# Altium integrated library Capacitors - Ceramic - 0201.IntLib: 1723 symbols (part 36 of 38)
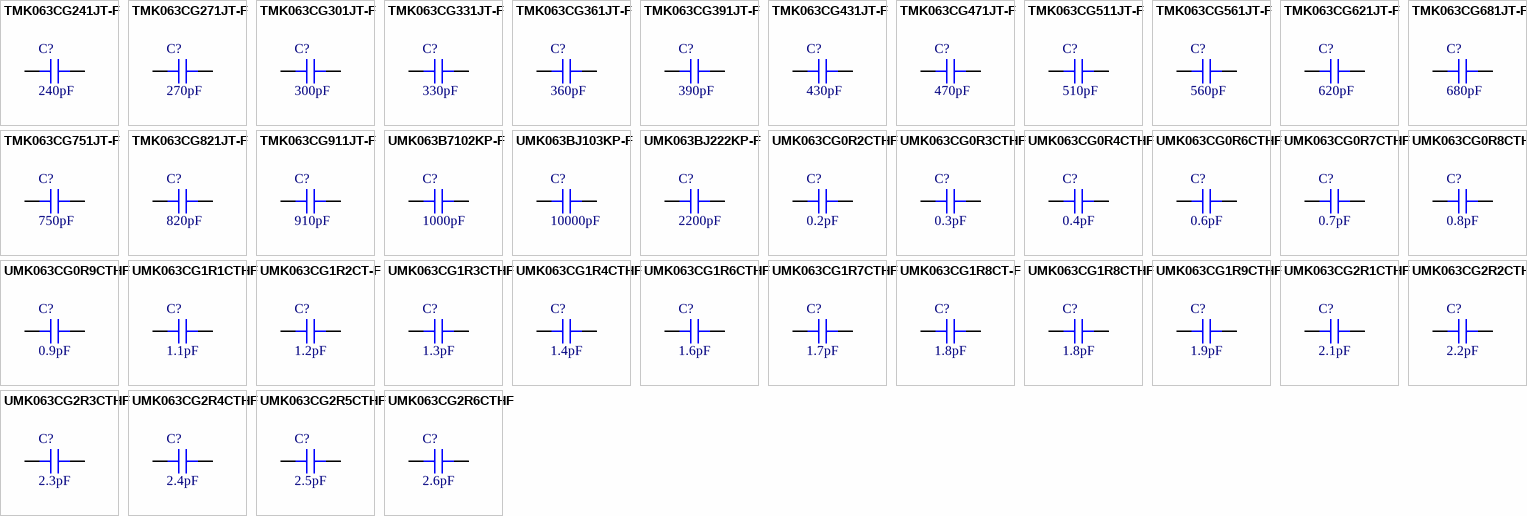
[diagram p78: symbols TMK063CG241JT-F to UMK063CG2R6CTHF]

## UMK063CG2R3CTHF
designator C?, comment 2.3pF
CAP CER 2.3PF 50V C0G/NP0 0201; Part Number: UMK063CG2R3CTHF; Manufacturer: Taiyo Yuden; Temperature Coefficient: C0G, NP0; Tolerance: ±0.25pF; Value: 2.3pF; Applications: Automotive, SMPS Filtering; Capacitance: 2.3pF; ComponentLink1Description: Datasheet; ComponentLink1URL: https://ds.yuden.co.jp/TYCOMPAS/ut/detail?pn=UMK063CG2R3CTHF &u=M; ComponentLink2Description: DigiKey Link; ComponentLink2URL: http://digikey.com/product-detail/en/taiyo-yuden/UMK063CG2R3CTHF/587-5315-1-ND/7066177; Device Package: 0201 (0603 Metric); LastUpdated: 9/2/2020 12:59:57 AM; Lifecycle Status: Active; Minimum Order: 1; Mounting Type: Surface Mount, MLCC; Operating Temperature: -55°C ~ 125°C; Package / Case: 0201 (0603 Metric); Packaging: TapeAndReel; PartId: 264; Part Status: Active; Price: 0.01; Ratings: AEC-Q200; Series: M; Size / Dimension: 0.024" L x 0.012" W (0.60mm x 0.30mm); Supplier 1: DigiKey; Supplier Part Number 1: 587-5315-1-ND; Thickness (Max): 0.013" (0.33mm); Voltage - Rated: 50V
footprint CAP 0201_0603
pins: 1, 2

## UMK063CG2R4CTHF
designator C?, comment 2.4pF
CAP CER 2.4PF 50V C0G/NP0 0201; Part Number: UMK063CG2R4CTHF; Manufacturer: Taiyo Yuden; Temperature Coefficient: C0G, NP0; Tolerance: ±0.25pF; Value: 2.4pF; Applications: Automotive, SMPS Filtering; Capacitance: 2.4pF; ComponentLink1Description: Datasheet; ComponentLink1URL: https://ds.yuden.co.jp/TYCOMPAS/ut/detail?pn=UMK063CG2R4CTHF &u=M; ComponentLink2Description: DigiKey Link; ComponentLink2URL: http://digikey.com/product-detail/en/taiyo-yuden/UMK063CG2R4CTHF/587-5316-1-ND/7066178; Device Package: 0201 (0603 Metric); LastUpdated: 9/2/2020 12:59:56 AM; Lifecycle Status: Active; Minimum Order: 1; Mounting Type: Surface Mount, MLCC; Operating Temperature: -55°C ~ 125°C; Package / Case: 0201 (0603 Metric); Packaging: TapeAndReel; PartId: 265; Part Status: Active; Price: 0.01; Ratings: AEC-Q200; Series: M; Size / Dimension: 0.024" L x 0.012" W (0.60mm x 0.30mm); Supplier 1: DigiKey; Supplier Part Number 1: 587-5316-1-ND; Thickness (Max): 0.013" (0.33mm); Voltage - Rated: 50V
footprint CAP 0201_0603
pins: 1, 2

## UMK063CG2R5CTHF
designator C?, comment 2.5pF
CAP CER 2.5PF 50V C0G/NP0 0201; Part Number: UMK063CG2R5CTHF; Manufacturer: Taiyo Yuden; Temperature Coefficient: C0G, NP0; Tolerance: ±0.25pF; Value: 2.5pF; Applications: Automotive, SMPS Filtering; Capacitance: 2.5pF; ComponentLink1Description: Datasheet; ComponentLink1URL: https://ds.yuden.co.jp/TYCOMPAS/ut/detail?pn=UMK063CG2R5CTHF &u=M; ComponentLink2Description: DigiKey Link; ComponentLink2URL: http://digikey.com/product-detail/en/taiyo-yuden/UMK063CG2R5CTHF/587-5317-1-ND/7066179; Device Package: 0201 (0603 Metric); LastUpdated: 9/2/2020 12:59:56 AM; Lifecycle Status: Active; Minimum Order: 1; Mounting Type: Surface Mount, MLCC; Operating Temperature: -55°C ~ 125°C; Package / Case: 0201 (0603 Metric); Packaging: TapeAndReel; PartId: 266; Part Status: Active; Price: 0.01; Ratings: AEC-Q200; Series: M; Size / Dimension: 0.024" L x 0.012" W (0.60mm x 0.30mm); Supplier 1: DigiKey; Supplier Part Number 1: 587-5317-1-ND; Thickness (Max): 0.013" (0.33mm); Voltage - Rated: 50V
footprint CAP 0201_0603
pins: 1, 2

## UMK063CG2R6CTHF
designator C?, comment 2.6pF
CAP CER 2.6PF 50V C0G/NP0 0201; Part Number: UMK063CG2R6CTHF; Manufacturer: Taiyo Yuden; Temperature Coefficient: C0G, NP0; Tolerance: ±0.25pF; Value: 2.6pF; Applications: Automotive, SMPS Filtering; Capacitance: 2.6pF; ComponentLink1Description: Datasheet; ComponentLink1URL: https://ds.yuden.co.jp/TYCOMPAS/ut/detail?pn=UMK063CG2R6CTHF &u=M; ComponentLink2Description: DigiKey Link; ComponentLink2URL: http://digikey.com/product-detail/en/taiyo-yuden/UMK063CG2R6CTHF/587-5318-1-ND/7066180; Device Package: 0201 (0603 Metric); LastUpdated: 9/2/2020 12:58:21 AM; Lifecycle Status: Active; Minimum Order: 1; Mounting Type: Surface Mount, MLCC; Operating Temperature: -55°C ~ 125°C; Package / Case: 0201 (0603 Metric); Packaging: TapeAndReel; PartId: 1372; Part Status: Active; Price: 0.01; Ratings: AEC-Q200; Series: M; Size / Dimension: 0.024" L x 0.012" W (0.60mm x 0.30mm); Supplier 1: DigiKey; Supplier Part Number 1: 587-5318-1-ND; Thickness (Max): 0.013" (0.33mm); Voltage - Rated: 50V
footprint CAP 0201_0603
pins: 1, 2

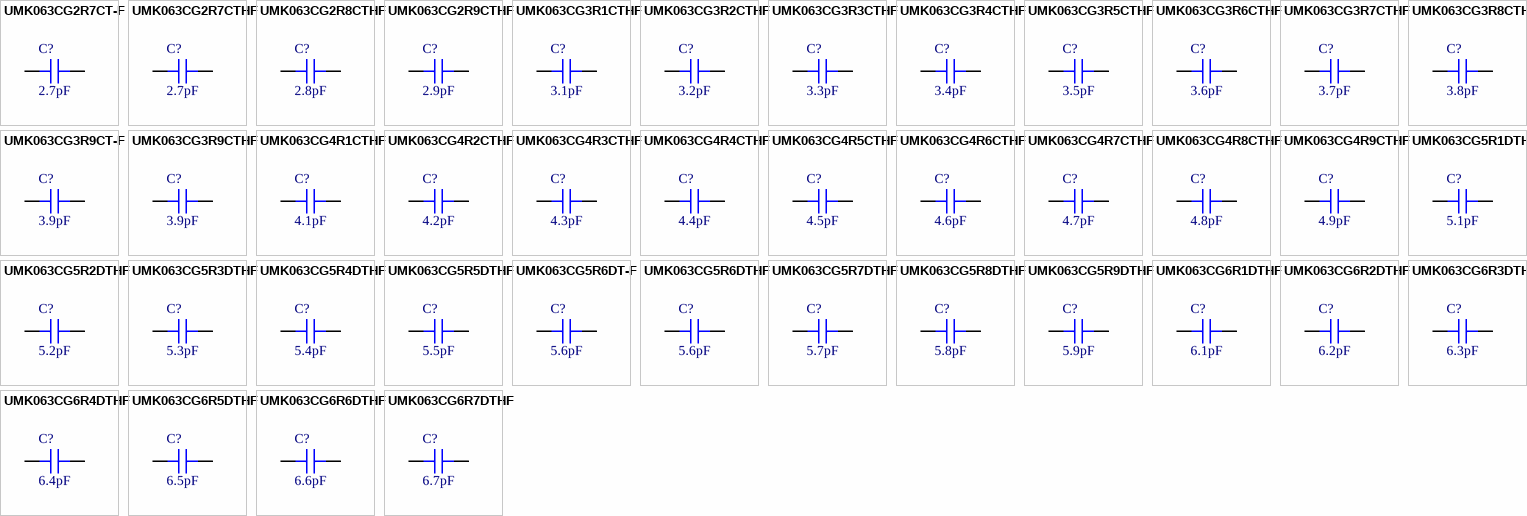
[diagram p40: symbols UMK063CG2R7CT-F to UMK063CG6R7DTHF]

## UMK063CG2R7CT-F
designator C?, comment 2.7pF
CAP CER 2.7PF 50V NP0 0201; Part Number: UMK063CG2R7CT-F; Manufacturer: Taiyo Yuden; Temperature Coefficient: C0G, NP0; Tolerance: ±0.25pF; Value: 2.7pF; Applications: General Purpose; Capacitance: 2.7pF; ComponentLink1Description: Datasheet; ComponentLink1URL: https://ds.yuden.co.jp/TYCOMPAS/ut/detail?pn=UMK063CG2R7CT-F  &u=M; ComponentLink2Description: DigiKey Link; ComponentLink2URL: http://digikey.com/product-detail/en/taiyo-yuden/UMK063CG2R7CT-F/587-3197-1-ND/3195032; Device Package: 0201 (0603 Metric); LastUpdated: 9/2/2020 1:00:14 AM; Lifecycle Status: Active; Minimum Order: 1; Mounting Type: Surface Mount, MLCC; Operating Temperature: -55°C ~ 125°C; Package / Case: 0201 (0603 Metric); Packaging: TapeAndReel; PartId: 61; Part Status: Active; Price: 0.01; Series: M; Size / Dimension: 0.024" L x 0.012" W (0.60mm x 0.30mm); Supplier 1: DigiKey; Supplier Part Number 1: 587-3197-1-ND; Thickness (Max): 0.013" (0.33mm); Voltage - Rated: 50V
footprint CAP 0201_0603
pins: 1, 2

## UMK063CG2R7CTHF
designator C?, comment 2.7pF
CAP CER 2.7PF 50V C0G/NP0 0201; Part Number: UMK063CG2R7CTHF; Manufacturer: Taiyo Yuden; Temperature Coefficient: C0G, NP0; Tolerance: ±0.25pF; Value: 2.7pF; Applications: Automotive, SMPS Filtering; Capacitance: 2.7pF; ComponentLink1Description: Datasheet; ComponentLink1URL: https://ds.yuden.co.jp/TYCOMPAS/ut/detail?pn=UMK063CG2R7CTHF &u=M; ComponentLink2Description: DigiKey Link; ComponentLink2URL: http://digikey.com/product-detail/en/taiyo-yuden/UMK063CG2R7CTHF/587-5319-1-ND/7066181; Device Package: 0201 (0603 Metric); LastUpdated: 9/2/2020 12:58:19 AM; Lifecycle Status: Active; Minimum Order: 1; Mounting Type: Surface Mount, MLCC; Operating Temperature: -55°C ~ 125°C; Package / Case: 0201 (0603 Metric); Packaging: TapeAndReel; PartId: 1395; Part Status: Active; Price: 0.01; Ratings: AEC-Q200; Series: M; Size / Dimension: 0.024" L x 0.012" W (0.60mm x 0.30mm); Supplier 1: DigiKey; Supplier Part Number 1: 587-5319-1-ND; Thickness (Max): 0.013" (0.33mm); Voltage - Rated: 50V
footprint CAP 0201_0603
pins: 1, 2

## UMK063CG2R8CTHF
designator C?, comment 2.8pF
CAP CER 2.8PF 50V C0G/NP0 0201; Part Number: UMK063CG2R8CTHF; Manufacturer: Taiyo Yuden; Temperature Coefficient: C0G, NP0; Tolerance: ±0.25pF; Value: 2.8pF; Applications: Automotive, SMPS Filtering; Capacitance: 2.8pF; ComponentLink1Description: Datasheet; ComponentLink1URL: https://ds.yuden.co.jp/TYCOMPAS/ut/detail?pn=UMK063CG2R8CTHF &u=M; ComponentLink2Description: DigiKey Link; ComponentLink2URL: http://digikey.com/product-detail/en/taiyo-yuden/UMK063CG2R8CTHF/587-5320-1-ND/7066182; Device Package: 0201 (0603 Metric); LastUpdated: 9/2/2020 12:59:56 AM; Lifecycle Status: Active; Minimum Order: 1; Mounting Type: Surface Mount, MLCC; Operating Temperature: -55°C ~ 125°C; Package / Case: 0201 (0603 Metric); Packaging: TapeAndReel; PartId: 267; Part Status: Active; Price: 0.01; Ratings: AEC-Q200; Series: M; Size / Dimension: 0.024" L x 0.012" W (0.60mm x 0.30mm); Supplier 1: DigiKey; Supplier Part Number 1: 587-5320-1-ND; Thickness (Max): 0.013" (0.33mm); Voltage - Rated: 50V
footprint CAP 0201_0603
pins: 1, 2

## UMK063CG2R9CTHF
designator C?, comment 2.9pF
CAP CER 2.9PF 50V C0G/NP0 0201; Part Number: UMK063CG2R9CTHF; Manufacturer: Taiyo Yuden; Temperature Coefficient: C0G, NP0; Tolerance: ±0.25pF; Value: 2.9pF; Applications: Automotive, SMPS Filtering; Capacitance: 2.9pF; ComponentLink1Description: Datasheet; ComponentLink1URL: https://ds.yuden.co.jp/TYCOMPAS/ut/detail?pn=UMK063CG2R9CTHF &u=M; ComponentLink2Description: DigiKey Link; ComponentLink2URL: http://digikey.com/product-detail/en/taiyo-yuden/UMK063CG2R9CTHF/587-5321-1-ND/7066183; Device Package: 0201 (0603 Metric); LastUpdated: 9/2/2020 12:59:56 AM; Lifecycle Status: Active; Minimum Order: 1; Mounting Type: Surface Mount, MLCC; Operating Temperature: -55°C ~ 125°C; Package / Case: 0201 (0603 Metric); Packaging: TapeAndReel; PartId: 268; Part Status: Active; Price: 0.01; Ratings: AEC-Q200; Series: M; Size / Dimension: 0.024" L x 0.012" W (0.60mm x 0.30mm); Supplier 1: DigiKey; Supplier Part Number 1: 587-5321-1-ND; Thickness (Max): 0.013" (0.33mm); Voltage - Rated: 50V
footprint CAP 0201_0603
pins: 1, 2

## UMK063CG3R1CTHF
designator C?, comment 3.1pF
CAP CER 3.1PF 50V C0G/NP0 0201; Part Number: UMK063CG3R1CTHF; Manufacturer: Taiyo Yuden; Temperature Coefficient: C0G, NP0; Tolerance: ±0.25pF; Value: 3.1pF; Applications: Automotive, SMPS Filtering; Capacitance: 3.1pF; ComponentLink1Description: Datasheet; ComponentLink1URL: https://ds.yuden.co.jp/TYCOMPAS/ut/detail?pn=UMK063CG3R1CTHF &u=M; ComponentLink2Description: DigiKey Link; ComponentLink2URL: http://digikey.com/product-detail/en/taiyo-yuden/UMK063CG3R1CTHF/587-5322-1-ND/7066184; Device Package: 0201 (0603 Metric); LastUpdated: 9/2/2020 12:59:56 AM; Lifecycle Status: Active; Minimum Order: 1; Mounting Type: Surface Mount, MLCC; Operating Temperature: -55°C ~ 125°C; Package / Case: 0201 (0603 Metric); Packaging: TapeAndReel; PartId: 269; Part Status: Active; Price: 0.01; Ratings: AEC-Q200; Series: M; Size / Dimension: 0.024" L x 0.012" W (0.60mm x 0.30mm); Supplier 1: DigiKey; Supplier Part Number 1: 587-5322-1-ND; Thickness (Max): 0.013" (0.33mm); Voltage - Rated: 50V
footprint CAP 0201_0603
pins: 1, 2

## UMK063CG3R2CTHF
designator C?, comment 3.2pF
CAP CER 3.2PF 50V C0G/NP0 0201; Part Number: UMK063CG3R2CTHF; Manufacturer: Taiyo Yuden; Temperature Coefficient: C0G, NP0; Tolerance: ±0.25pF; Value: 3.2pF; Applications: Automotive, SMPS Filtering; Capacitance: 3.2pF; ComponentLink1Description: Datasheet; ComponentLink1URL: https://ds.yuden.co.jp/TYCOMPAS/ut/detail?pn=UMK063CG3R2CTHF &u=M; ComponentLink2Description: DigiKey Link; ComponentLink2URL: http://digikey.com/product-detail/en/taiyo-yuden/UMK063CG3R2CTHF/587-5323-1-ND/7066185; Device Package: 0201 (0603 Metric); LastUpdated: 9/2/2020 12:59:56 AM; Lifecycle Status: Active; Minimum Order: 1; Mounting Type: Surface Mount, MLCC; Operating Temperature: -55°C ~ 125°C; Package / Case: 0201 (0603 Metric); Packaging: TapeAndReel; PartId: 270; Part Status: Active; Price: 0.01; Ratings: AEC-Q200; Series: M; Size / Dimension: 0.024" L x 0.012" W (0.60mm x 0.30mm); Supplier 1: DigiKey; Supplier Part Number 1: 587-5323-1-ND; Thickness (Max): 0.013" (0.33mm); Voltage - Rated: 50V
footprint CAP 0201_0603
pins: 1, 2

## UMK063CG3R3CTHF
designator C?, comment 3.3pF
CAP CER 3.3PF 50V C0G/NP0 0201; Part Number: UMK063CG3R3CTHF; Manufacturer: Taiyo Yuden; Temperature Coefficient: C0G, NP0; Tolerance: ±0.25pF; Value: 3.3pF; Applications: Automotive, SMPS Filtering; Capacitance: 3.3pF; ComponentLink1Description: Datasheet; ComponentLink1URL: https://ds.yuden.co.jp/TYCOMPAS/ut/detail?pn=UMK063CG3R3CTHF &u=M; ComponentLink2Description: DigiKey Link; ComponentLink2URL: http://digikey.com/product-detail/en/taiyo-yuden/UMK063CG3R3CTHF/587-5324-1-ND/7066186; Device Package: 0201 (0603 Metric); LastUpdated: 9/2/2020 12:59:56 AM; Lifecycle Status: Active; Minimum Order: 1; Mounting Type: Surface Mount, MLCC; Operating Temperature: -55°C ~ 125°C; Package / Case: 0201 (0603 Metric); Packaging: TapeAndReel; PartId: 271; Part Status: Active; Price: 0.01; Ratings: AEC-Q200; Series: M; Size / Dimension: 0.024" L x 0.012" W (0.60mm x 0.30mm); Supplier 1: DigiKey; Supplier Part Number 1: 587-5324-1-ND; Thickness (Max): 0.013" (0.33mm); Voltage - Rated: 50V
footprint CAP 0201_0603
pins: 1, 2

## UMK063CG3R4CTHF
designator C?, comment 3.4pF
CAP CER 3.4PF 50V C0G/NP0 0201; Part Number: UMK063CG3R4CTHF; Manufacturer: Taiyo Yuden; Temperature Coefficient: C0G, NP0; Tolerance: ±0.25pF; Value: 3.4pF; Applications: Automotive, SMPS Filtering; Capacitance: 3.4pF; ComponentLink1Description: Datasheet; ComponentLink1URL: https://ds.yuden.co.jp/TYCOMPAS/ut/detail?pn=UMK063CG3R4CTHF &u=M; ComponentLink2Description: DigiKey Link; ComponentLink2URL: http://digikey.com/product-detail/en/taiyo-yuden/UMK063CG3R4CTHF/587-5325-1-ND/7066187; Device Package: 0201 (0603 Metric); LastUpdated: 9/2/2020 12:59:56 AM; Lifecycle Status: Active; Minimum Order: 1; Mounting Type: Surface Mount, MLCC; Operating Temperature: -55°C ~ 125°C; Package / Case: 0201 (0603 Metric); Packaging: TapeAndReel; PartId: 272; Part Status: Active; Price: 0.01; Ratings: AEC-Q200; Series: M; Size / Dimension: 0.024" L x 0.012" W (0.60mm x 0.30mm); Supplier 1: DigiKey; Supplier Part Number 1: 587-5325-1-ND; Thickness (Max): 0.013" (0.33mm); Voltage - Rated: 50V
footprint CAP 0201_0603
pins: 1, 2

## UMK063CG3R5CTHF
designator C?, comment 3.5pF
CAP CER 3.5PF 50V C0G/NP0 0201; Part Number: UMK063CG3R5CTHF; Manufacturer: Taiyo Yuden; Temperature Coefficient: C0G, NP0; Tolerance: ±0.25pF; Value: 3.5pF; Applications: Automotive, SMPS Filtering; Capacitance: 3.5pF; ComponentLink1Description: Datasheet; ComponentLink1URL: https://ds.yuden.co.jp/TYCOMPAS/ut/detail?pn=UMK063CG3R5CTHF &u=M; ComponentLink2Description: DigiKey Link; ComponentLink2URL: http://digikey.com/product-detail/en/taiyo-yuden/UMK063CG3R5CTHF/587-5326-1-ND/7066188; Device Package: 0201 (0603 Metric); LastUpdated: 9/2/2020 12:59:56 AM; Lifecycle Status: Active; Minimum Order: 1; Mounting Type: Surface Mount, MLCC; Operating Temperature: -55°C ~ 125°C; Package / Case: 0201 (0603 Metric); Packaging: TapeAndReel; PartId: 273; Part Status: Active; Price: 0.01; Ratings: AEC-Q200; Series: M; Size / Dimension: 0.024" L x 0.012" W (0.60mm x 0.30mm); Supplier 1: DigiKey; Supplier Part Number 1: 587-5326-1-ND; Thickness (Max): 0.013" (0.33mm); Voltage - Rated: 50V
footprint CAP 0201_0603
pins: 1, 2

## UMK063CG3R6CTHF
designator C?, comment 3.6pF
CAP CER 3.6PF 50V C0G/NP0 0201; Part Number: UMK063CG3R6CTHF; Manufacturer: Taiyo Yuden; Temperature Coefficient: C0G, NP0; Tolerance: ±0.25pF; Value: 3.6pF; Applications: Automotive, SMPS Filtering; Capacitance: 3.6pF; ComponentLink1Description: Datasheet; ComponentLink1URL: https://ds.yuden.co.jp/TYCOMPAS/ut/detail?pn=UMK063CG3R6CTHF &u=M; ComponentLink2Description: DigiKey Link; ComponentLink2URL: http://digikey.com/product-detail/en/taiyo-yuden/UMK063CG3R6CTHF/587-5327-1-ND/7066189; Device Package: 0201 (0603 Metric); LastUpdated: 9/2/2020 12:58:22 AM; Lifecycle Status: Active; Minimum Order: 1; Mounting Type: Surface Mount, MLCC; Operating Temperature: -55°C ~ 125°C; Package / Case: 0201 (0603 Metric); Packaging: TapeAndReel; PartId: 1364; Part Status: Active; Price: 0.01; Ratings: AEC-Q200; Series: M; Size / Dimension: 0.024" L x 0.012" W (0.60mm x 0.30mm); Supplier 1: DigiKey; Supplier Part Number 1: 587-5327-1-ND; Thickness (Max): 0.013" (0.33mm); Voltage - Rated: 50V
footprint CAP 0201_0603
pins: 1, 2

## UMK063CG3R7CTHF
designator C?, comment 3.7pF
CAP CER 3.7PF 50V C0G/NP0 0201; Part Number: UMK063CG3R7CTHF; Manufacturer: Taiyo Yuden; Temperature Coefficient: C0G, NP0; Tolerance: ±0.25pF; Value: 3.7pF; Applications: Automotive, SMPS Filtering; Capacitance: 3.7pF; ComponentLink1Description: Datasheet; ComponentLink1URL: https://ds.yuden.co.jp/TYCOMPAS/ut/detail?pn=UMK063CG3R7CTHF &u=M; ComponentLink2Description: DigiKey Link; ComponentLink2URL: http://digikey.com/product-detail/en/taiyo-yuden/UMK063CG3R7CTHF/587-5328-1-ND/7066190; Device Package: 0201 (0603 Metric); LastUpdated: 9/2/2020 12:59:56 AM; Lifecycle Status: Active; Minimum Order: 1; Mounting Type: Surface Mount, MLCC; Operating Temperature: -55°C ~ 125°C; Package / Case: 0201 (0603 Metric); Packaging: TapeAndReel; PartId: 274; Part Status: Active; Price: 0.01; Ratings: AEC-Q200; Series: M; Size / Dimension: 0.024" L x 0.012" W (0.60mm x 0.30mm); Supplier 1: DigiKey; Supplier Part Number 1: 587-5328-1-ND; Thickness (Max): 0.013" (0.33mm); Voltage - Rated: 50V
footprint CAP 0201_0603
pins: 1, 2

## UMK063CG3R8CTHF
designator C?, comment 3.8pF
CAP CER 3.8PF 50V C0G/NP0 0201; Part Number: UMK063CG3R8CTHF; Manufacturer: Taiyo Yuden; Temperature Coefficient: C0G, NP0; Tolerance: ±0.25pF; Value: 3.8pF; Applications: Automotive, SMPS Filtering; Capacitance: 3.8pF; ComponentLink1Description: Datasheet; ComponentLink1URL: https://ds.yuden.co.jp/TYCOMPAS/ut/detail?pn=UMK063CG3R8CTHF &u=M; ComponentLink2Description: DigiKey Link; ComponentLink2URL: http://digikey.com/product-detail/en/taiyo-yuden/UMK063CG3R8CTHF/587-5329-1-ND/7066191; Device Package: 0201 (0603 Metric); LastUpdated: 9/2/2020 12:59:56 AM; Lifecycle Status: Active; Minimum Order: 1; Mounting Type: Surface Mount, MLCC; Operating Temperature: -55°C ~ 125°C; Package / Case: 0201 (0603 Metric); Packaging: TapeAndReel; PartId: 275; Part Status: Active; Price: 0.01; Ratings: AEC-Q200; Series: M; Size / Dimension: 0.024" L x 0.012" W (0.60mm x 0.30mm); Supplier 1: DigiKey; Supplier Part Number 1: 587-5329-1-ND; Thickness (Max): 0.013" (0.33mm); Voltage - Rated: 50V
footprint CAP 0201_0603
pins: 1, 2

## UMK063CG3R9CT-F
designator C?, comment 3.9pF
CAP CER 3.9PF 50V NP0 0201; Part Number: UMK063CG3R9CT-F; Manufacturer: Taiyo Yuden; Temperature Coefficient: C0G, NP0; Tolerance: ±0.25pF; Value: 3.9pF; Applications: General Purpose; Capacitance: 3.9pF; ComponentLink1Description: Datasheet; ComponentLink1URL: https://ds.yuden.co.jp/TYCOMPAS/ut/detail?pn=UMK063CG3R9CT-F  &u=M; ComponentLink2Description: DigiKey Link; ComponentLink2URL: http://digikey.com/product-detail/en/taiyo-yuden/UMK063CG3R9CT-F/587-3193-1-ND/3195063; Device Package: 0201 (0603 Metric); LastUpdated: 9/2/2020 12:58:50 AM; Lifecycle Status: Active; Minimum Order: 1; Mounting Type: Surface Mount, MLCC; Operating Temperature: -55°C ~ 125°C; Package / Case: 0201 (0603 Metric); Packaging: TapeAndReel; PartId: 1041; Part Status: Active; Price: 0.01; Series: M; Size / Dimension: 0.024" L x 0.012" W (0.60mm x 0.30mm); Supplier 1: DigiKey; Supplier Part Number 1: 587-3193-1-ND; Thickness (Max): 0.013" (0.33mm); Voltage - Rated: 50V
footprint CAP 0201_0603
pins: 1, 2

## UMK063CG3R9CTHF
designator C?, comment 3.9pF
CAP CER 3.9PF 50V C0G/NP0 0201; Part Number: UMK063CG3R9CTHF; Manufacturer: Taiyo Yuden; Temperature Coefficient: C0G, NP0; Tolerance: ±0.25pF; Value: 3.9pF; Applications: Automotive, SMPS Filtering; Capacitance: 3.9pF; ComponentLink1Description: Datasheet; ComponentLink1URL: https://ds.yuden.co.jp/TYCOMPAS/ut/detail?pn=UMK063CG3R9CTHF &u=M; ComponentLink2Description: DigiKey Link; ComponentLink2URL: http://digikey.com/product-detail/en/taiyo-yuden/UMK063CG3R9CTHF/587-5330-1-ND/7066192; Device Package: 0201 (0603 Metric); LastUpdated: 9/2/2020 12:59:56 AM; Lifecycle Status: Active; Minimum Order: 1; Mounting Type: Surface Mount, MLCC; Operating Temperature: -55°C ~ 125°C; Package / Case: 0201 (0603 Metric); Packaging: TapeAndReel; PartId: 276; Part Status: Active; Price: 0.01; Ratings: AEC-Q200; Series: M; Size / Dimension: 0.024" L x 0.012" W (0.60mm x 0.30mm); Supplier 1: DigiKey; Supplier Part Number 1: 587-5330-1-ND; Thickness (Max): 0.013" (0.33mm); Voltage - Rated: 50V
footprint CAP 0201_0603
pins: 1, 2

## UMK063CG4R1CTHF
designator C?, comment 4.1pF
CAP CER 4.1PF 50V C0G/NP0 0201; Part Number: UMK063CG4R1CTHF; Manufacturer: Taiyo Yuden; Temperature Coefficient: C0G, NP0; Tolerance: ±0.25pF; Value: 4.1pF; Applications: Automotive, SMPS Filtering; Capacitance: 4.1pF; ComponentLink1Description: Datasheet; ComponentLink1URL: https://ds.yuden.co.jp/TYCOMPAS/ut/detail?pn=UMK063CG4R1CTHF &u=M; ComponentLink2Description: DigiKey Link; ComponentLink2URL: http://digikey.com/product-detail/en/taiyo-yuden/UMK063CG4R1CTHF/587-5331-1-ND/7066193; Device Package: 0201 (0603 Metric); LastUpdated: 9/2/2020 12:59:55 AM; Lifecycle Status: Active; Minimum Order: 1; Mounting Type: Surface Mount, MLCC; Operating Temperature: -55°C ~ 125°C; Package / Case: 0201 (0603 Metric); Packaging: TapeAndReel; PartId: 277; Part Status: Active; Price: 0.01; Ratings: AEC-Q200; Series: M; Size / Dimension: 0.024" L x 0.012" W (0.60mm x 0.30mm); Supplier 1: DigiKey; Supplier Part Number 1: 587-5331-1-ND; Thickness (Max): 0.013" (0.33mm); Voltage - Rated: 50V
footprint CAP 0201_0603
pins: 1, 2

## UMK063CG4R2CTHF
designator C?, comment 4.2pF
CAP CER 4.2PF 50V C0G/NP0 0201; Part Number: UMK063CG4R2CTHF; Manufacturer: Taiyo Yuden; Temperature Coefficient: C0G, NP0; Tolerance: ±0.25pF; Value: 4.2pF; Applications: Automotive, SMPS Filtering; Capacitance: 4.2pF; ComponentLink1Description: Datasheet; ComponentLink1URL: https://ds.yuden.co.jp/TYCOMPAS/ut/detail?pn=UMK063CG4R2CTHF &u=M; ComponentLink2Description: DigiKey Link; ComponentLink2URL: http://digikey.com/product-detail/en/taiyo-yuden/UMK063CG4R2CTHF/587-5332-1-ND/7066194; Device Package: 0201 (0603 Metric); LastUpdated: 9/2/2020 12:59:55 AM; Lifecycle Status: Active; Minimum Order: 1; Mounting Type: Surface Mount, MLCC; Operating Temperature: -55°C ~ 125°C; Package / Case: 0201 (0603 Metric); Packaging: TapeAndReel; PartId: 278; Part Status: Active; Price: 0.01; Ratings: AEC-Q200; Series: M; Size / Dimension: 0.024" L x 0.012" W (0.60mm x 0.30mm); Supplier 1: DigiKey; Supplier Part Number 1: 587-5332-1-ND; Thickness (Max): 0.013" (0.33mm); Voltage - Rated: 50V
footprint CAP 0201_0603
pins: 1, 2

## UMK063CG4R3CTHF
designator C?, comment 4.3pF
CAP CER 4.3PF 50V C0G/NP0 0201; Part Number: UMK063CG4R3CTHF; Manufacturer: Taiyo Yuden; Temperature Coefficient: C0G, NP0; Tolerance: ±0.25pF; Value: 4.3pF; Applications: Automotive, SMPS Filtering; Capacitance: 4.3pF; ComponentLink1Description: Datasheet; ComponentLink1URL: https://ds.yuden.co.jp/TYCOMPAS/ut/detail?pn=UMK063CG4R3CTHF &u=M; ComponentLink2Description: DigiKey Link; ComponentLink2URL: http://digikey.com/product-detail/en/taiyo-yuden/UMK063CG4R3CTHF/587-5333-1-ND/7066195; Device Package: 0201 (0603 Metric); LastUpdated: 9/2/2020 12:58:36 AM; Lifecycle Status: Active; Minimum Order: 1; Mounting Type: Surface Mount, MLCC; Operating Temperature: -55°C ~ 125°C; Package / Case: 0201 (0603 Metric); Packaging: TapeAndReel; PartId: 1213; Part Status: Active; Price: 0.01; Ratings: AEC-Q200; Series: M; Size / Dimension: 0.024" L x 0.012" W (0.60mm x 0.30mm); Supplier 1: DigiKey; Supplier Part Number 1: 587-5333-1-ND; Thickness (Max): 0.013" (0.33mm); Voltage - Rated: 50V
footprint CAP 0201_0603
pins: 1, 2

## UMK063CG4R4CTHF
designator C?, comment 4.4pF
CAP CER 4.4PF 50V C0G/NP0 0201; Part Number: UMK063CG4R4CTHF; Manufacturer: Taiyo Yuden; Temperature Coefficient: C0G, NP0; Tolerance: ±0.25pF; Value: 4.4pF; Applications: Automotive, SMPS Filtering; Capacitance: 4.4pF; ComponentLink1Description: Datasheet; ComponentLink1URL: https://ds.yuden.co.jp/TYCOMPAS/ut/detail?pn=UMK063CG4R4CTHF &u=M; ComponentLink2Description: DigiKey Link; ComponentLink2URL: http://digikey.com/product-detail/en/taiyo-yuden/UMK063CG4R4CTHF/587-5334-1-ND/7066196; Device Package: 0201 (0603 Metric); LastUpdated: 9/2/2020 12:59:55 AM; Lifecycle Status: Active; Minimum Order: 1; Mounting Type: Surface Mount, MLCC; Operating Temperature: -55°C ~ 125°C; Package / Case: 0201 (0603 Metric); Packaging: TapeAndReel; PartId: 279; Part Status: Active; Price: 0.01; Ratings: AEC-Q200; Series: M; Size / Dimension: 0.024" L x 0.012" W (0.60mm x 0.30mm); Supplier 1: DigiKey; Supplier Part Number 1: 587-5334-1-ND; Thickness (Max): 0.013" (0.33mm); Voltage - Rated: 50V
footprint CAP 0201_0603
pins: 1, 2

## UMK063CG4R5CTHF
designator C?, comment 4.5pF
CAP CER 4.5PF 50V C0G/NP0 0201; Part Number: UMK063CG4R5CTHF; Manufacturer: Taiyo Yuden; Temperature Coefficient: C0G, NP0; Tolerance: ±0.25pF; Value: 4.5pF; Applications: Automotive, SMPS Filtering; Capacitance: 4.5pF; ComponentLink1Description: Datasheet; ComponentLink1URL: https://ds.yuden.co.jp/TYCOMPAS/ut/detail?pn=UMK063CG4R5CTHF &u=M; ComponentLink2Description: DigiKey Link; ComponentLink2URL: http://digikey.com/product-detail/en/taiyo-yuden/UMK063CG4R5CTHF/587-5335-1-ND/7066197; Device Package: 0201 (0603 Metric); LastUpdated: 9/2/2020 12:59:55 AM; Lifecycle Status: Active; Minimum Order: 1; Mounting Type: Surface Mount, MLCC; Operating Temperature: -55°C ~ 125°C; Package / Case: 0201 (0603 Metric); Packaging: TapeAndReel; PartId: 280; Part Status: Active; Price: 0.01; Ratings: AEC-Q200; Series: M; Size / Dimension: 0.024" L x 0.012" W (0.60mm x 0.30mm); Supplier 1: DigiKey; Supplier Part Number 1: 587-5335-1-ND; Thickness (Max): 0.013" (0.33mm); Voltage - Rated: 50V
footprint CAP 0201_0603
pins: 1, 2

## UMK063CG4R6CTHF
designator C?, comment 4.6pF
CAP CER 4.6PF 50V C0G/NP0 0201; Part Number: UMK063CG4R6CTHF; Manufacturer: Taiyo Yuden; Temperature Coefficient: C0G, NP0; Tolerance: ±0.25pF; Value: 4.6pF; Applications: Automotive, SMPS Filtering; Capacitance: 4.6pF; ComponentLink1Description: Datasheet; ComponentLink1URL: https://ds.yuden.co.jp/TYCOMPAS/ut/detail?pn=UMK063CG4R6CTHF &u=M; ComponentLink2Description: DigiKey Link; ComponentLink2URL: http://digikey.com/product-detail/en/taiyo-yuden/UMK063CG4R6CTHF/587-5336-1-ND/7066198; Device Package: 0201 (0603 Metric); LastUpdated: 9/2/2020 12:59:55 AM; Lifecycle Status: Active; Minimum Order: 1; Mounting Type: Surface Mount, MLCC; Operating Temperature: -55°C ~ 125°C; Package / Case: 0201 (0603 Metric); Packaging: TapeAndReel; PartId: 281; Part Status: Active; Price: 0.01; Ratings: AEC-Q200; Series: M; Size / Dimension: 0.024" L x 0.012" W (0.60mm x 0.30mm); Supplier 1: DigiKey; Supplier Part Number 1: 587-5336-1-ND; Thickness (Max): 0.013" (0.33mm); Voltage - Rated: 50V
footprint CAP 0201_0603
pins: 1, 2

## UMK063CG4R7CTHF
designator C?, comment 4.7pF
CAP CER 4.7PF 50V C0G/NP0 0201; Part Number: UMK063CG4R7CTHF; Manufacturer: Taiyo Yuden; Temperature Coefficient: C0G, NP0; Tolerance: ±0.25pF; Value: 4.7pF; Applications: Automotive, SMPS Filtering; Capacitance: 4.7pF; ComponentLink1Description: Datasheet; ComponentLink1URL: https://ds.yuden.co.jp/TYCOMPAS/ut/detail?pn=UMK063CG4R7CTHF &u=M; ComponentLink2Description: DigiKey Link; ComponentLink2URL: http://digikey.com/product-detail/en/taiyo-yuden/UMK063CG4R7CTHF/587-5337-1-ND/7066199; Device Package: 0201 (0603 Metric); LastUpdated: 9/2/2020 1:00:04 AM; Lifecycle Status: Active; Minimum Order: 1; Mounting Type: Surface Mount, MLCC; Operating Temperature: -55°C ~ 125°C; Package / Case: 0201 (0603 Metric); Packaging: TapeAndReel; PartId: 176; Part Status: Active; Price: 0.01; Ratings: AEC-Q200; Series: M; Size / Dimension: 0.024" L x 0.012" W (0.60mm x 0.30mm); Supplier 1: DigiKey; Supplier Part Number 1: 587-5337-1-ND; Thickness (Max): 0.013" (0.33mm); Voltage - Rated: 50V
footprint CAP 0201_0603
pins: 1, 2

## UMK063CG4R8CTHF
designator C?, comment 4.8pF
CAP CER 4.8PF 50V C0G/NP0 0201; Part Number: UMK063CG4R8CTHF; Manufacturer: Taiyo Yuden; Temperature Coefficient: C0G, NP0; Tolerance: ±0.25pF; Value: 4.8pF; Applications: Automotive, SMPS Filtering; Capacitance: 4.8pF; ComponentLink1Description: Datasheet; ComponentLink1URL: https://ds.yuden.co.jp/TYCOMPAS/ut/detail?pn=UMK063CG4R8CTHF &u=M; ComponentLink2Description: DigiKey Link; ComponentLink2URL: http://digikey.com/product-detail/en/taiyo-yuden/UMK063CG4R8CTHF/587-5338-1-ND/7066200; Device Package: 0201 (0603 Metric); LastUpdated: 9/2/2020 12:59:55 AM; Lifecycle Status: Active; Minimum Order: 1; Mounting Type: Surface Mount, MLCC; Operating Temperature: -55°C ~ 125°C; Package / Case: 0201 (0603 Metric); Packaging: TapeAndReel; PartId: 282; Part Status: Active; Price: 0.01; Ratings: AEC-Q200; Series: M; Size / Dimension: 0.024" L x 0.012" W (0.60mm x 0.30mm); Supplier 1: DigiKey; Supplier Part Number 1: 587-5338-1-ND; Thickness (Max): 0.013" (0.33mm); Voltage - Rated: 50V
footprint CAP 0201_0603
pins: 1, 2

## UMK063CG4R9CTHF
designator C?, comment 4.9pF
CAP CER 4.9PF 50V C0G/NP0 0201; Part Number: UMK063CG4R9CTHF; Manufacturer: Taiyo Yuden; Temperature Coefficient: C0G, NP0; Tolerance: ±0.25pF; Value: 4.9pF; Applications: Automotive, SMPS Filtering; Capacitance: 4.9pF; ComponentLink1Description: Datasheet; ComponentLink1URL: https://ds.yuden.co.jp/TYCOMPAS/ut/detail?pn=UMK063CG4R9CTHF &u=M; ComponentLink2Description: DigiKey Link; ComponentLink2URL: http://digikey.com/product-detail/en/taiyo-yuden/UMK063CG4R9CTHF/587-5339-1-ND/7066201; Device Package: 0201 (0603 Metric); LastUpdated: 9/2/2020 12:59:55 AM; Lifecycle Status: Active; Minimum Order: 1; Mounting Type: Surface Mount, MLCC; Operating Temperature: -55°C ~ 125°C; Package / Case: 0201 (0603 Metric); Packaging: TapeAndReel; PartId: 283; Part Status: Active; Price: 0.01; Ratings: AEC-Q200; Series: M; Size / Dimension: 0.024" L x 0.012" W (0.60mm x 0.30mm); Supplier 1: DigiKey; Supplier Part Number 1: 587-5339-1-ND; Thickness (Max): 0.013" (0.33mm); Voltage - Rated: 50V
footprint CAP 0201_0603
pins: 1, 2

## UMK063CG5R1DTHF
designator C?, comment 5.1pF
CAP CER 5.1PF 50V C0G/NP0 0201; Part Number: UMK063CG5R1DTHF; Manufacturer: Taiyo Yuden; Temperature Coefficient: C0G, NP0; Tolerance: ±0.5pF; Value: 5.1pF; Applications: Automotive, SMPS Filtering; Capacitance: 5.1pF; ComponentLink1Description: Datasheet; ComponentLink1URL: https://ds.yuden.co.jp/TYCOMPAS/ut/detail?pn=UMK063CG5R1DTHF &u=M; ComponentLink2Description: DigiKey Link; ComponentLink2URL: http://digikey.com/product-detail/en/taiyo-yuden/UMK063CG5R1DTHF/587-5340-1-ND/7066202; Device Package: 0201 (0603 Metric); LastUpdated: 9/2/2020 12:59:55 AM; Lifecycle Status: Active; Minimum Order: 1; Mounting Type: Surface Mount, MLCC; Operating Temperature: -55°C ~ 125°C; Package / Case: 0201 (0603 Metric); Packaging: TapeAndReel; PartId: 284; Part Status: Active; Price: 0.01; Ratings: AEC-Q200; Series: M; Size / Dimension: 0.024" L x 0.012" W (0.60mm x 0.30mm); Supplier 1: DigiKey; Supplier Part Number 1: 587-5340-1-ND; Thickness (Max): 0.013" (0.33mm); Voltage - Rated: 50V
footprint CAP 0201_0603
pins: 1, 2

## UMK063CG5R2DTHF
designator C?, comment 5.2pF
CAP CER 5.2PF 50V C0G/NP0 0201; Part Number: UMK063CG5R2DTHF; Manufacturer: Taiyo Yuden; Temperature Coefficient: C0G, NP0; Tolerance: ±0.5pF; Value: 5.2pF; Applications: Automotive, SMPS Filtering; Capacitance: 5.2pF; ComponentLink1Description: Datasheet; ComponentLink1URL: https://ds.yuden.co.jp/TYCOMPAS/ut/detail?pn=UMK063CG5R2DTHF &u=M; ComponentLink2Description: DigiKey Link; ComponentLink2URL: http://digikey.com/product-detail/en/taiyo-yuden/UMK063CG5R2DTHF/587-5341-1-ND/7066203; Device Package: 0201 (0603 Metric); LastUpdated: 9/2/2020 12:59:55 AM; Lifecycle Status: Active; Minimum Order: 1; Mounting Type: Surface Mount, MLCC; Operating Temperature: -55°C ~ 125°C; Package / Case: 0201 (0603 Metric); Packaging: TapeAndReel; PartId: 285; Part Status: Active; Price: 0.01; Ratings: AEC-Q200; Series: M; Size / Dimension: 0.024" L x 0.012" W (0.60mm x 0.30mm); Supplier 1: DigiKey; Supplier Part Number 1: 587-5341-1-ND; Thickness (Max): 0.013" (0.33mm); Voltage - Rated: 50V
footprint CAP 0201_0603
pins: 1, 2

## UMK063CG5R3DTHF
designator C?, comment 5.3pF
CAP CER 5.3PF 50V C0G/NP0 0201; Part Number: UMK063CG5R3DTHF; Manufacturer: Taiyo Yuden; Temperature Coefficient: C0G, NP0; Tolerance: ±0.5pF; Value: 5.3pF; Applications: Automotive, SMPS Filtering; Capacitance: 5.3pF; ComponentLink1Description: Datasheet; ComponentLink1URL: https://ds.yuden.co.jp/TYCOMPAS/ut/detail?pn=UMK063CG5R3DTHF &u=M; ComponentLink2Description: DigiKey Link; ComponentLink2URL: http://digikey.com/product-detail/en/taiyo-yuden/UMK063CG5R3DTHF/587-5342-1-ND/7066204; Device Package: 0201 (0603 Metric); LastUpdated: 9/2/2020 12:59:55 AM; Lifecycle Status: Active; Minimum Order: 1; Mounting Type: Surface Mount, MLCC; Operating Temperature: -55°C ~ 125°C; Package / Case: 0201 (0603 Metric); Packaging: TapeAndReel; PartId: 286; Part Status: Active; Price: 0.01; Ratings: AEC-Q200; Series: M; Size / Dimension: 0.024" L x 0.012" W (0.60mm x 0.30mm); Supplier 1: DigiKey; Supplier Part Number 1: 587-5342-1-ND; Thickness (Max): 0.013" (0.33mm); Voltage - Rated: 50V
footprint CAP 0201_0603
pins: 1, 2

## UMK063CG5R4DTHF
designator C?, comment 5.4pF
CAP CER 5.4PF 50V C0G/NP0 0201; Part Number: UMK063CG5R4DTHF; Manufacturer: Taiyo Yuden; Temperature Coefficient: C0G, NP0; Tolerance: ±0.5pF; Value: 5.4pF; Applications: Automotive, SMPS Filtering; Capacitance: 5.4pF; ComponentLink1Description: Datasheet; ComponentLink1URL: https://ds.yuden.co.jp/TYCOMPAS/ut/detail?pn=UMK063CG5R4DTHF &u=M; ComponentLink2Description: DigiKey Link; ComponentLink2URL: http://digikey.com/product-detail/en/taiyo-yuden/UMK063CG5R4DTHF/587-5343-1-ND/7066205; Device Package: 0201 (0603 Metric); LastUpdated: 9/2/2020 12:59:55 AM; Lifecycle Status: Active; Minimum Order: 1; Mounting Type: Surface Mount, MLCC; Operating Temperature: -55°C ~ 125°C; Package / Case: 0201 (0603 Metric); Packaging: TapeAndReel; PartId: 287; Part Status: Active; Price: 0.01; Ratings: AEC-Q200; Series: M; Size / Dimension: 0.024" L x 0.012" W (0.60mm x 0.30mm); Supplier 1: DigiKey; Supplier Part Number 1: 587-5343-1-ND; Thickness (Max): 0.013" (0.33mm); Voltage - Rated: 50V
footprint CAP 0201_0603
pins: 1, 2

## UMK063CG5R5DTHF
designator C?, comment 5.5pF
CAP CER 5.5PF 50V C0G/NP0 0201; Part Number: UMK063CG5R5DTHF; Manufacturer: Taiyo Yuden; Temperature Coefficient: C0G, NP0; Tolerance: ±0.5pF; Value: 5.5pF; Applications: Automotive, SMPS Filtering; Capacitance: 5.5pF; ComponentLink1Description: Datasheet; ComponentLink1URL: https://ds.yuden.co.jp/TYCOMPAS/ut/detail?pn=UMK063CG5R5DTHF &u=M; ComponentLink2Description: DigiKey Link; ComponentLink2URL: http://digikey.com/product-detail/en/taiyo-yuden/UMK063CG5R5DTHF/587-5344-1-ND/7066206; Device Package: 0201 (0603 Metric); LastUpdated: 9/2/2020 12:59:55 AM; Lifecycle Status: Active; Minimum Order: 1; Mounting Type: Surface Mount, MLCC; Operating Temperature: -55°C ~ 125°C; Package / Case: 0201 (0603 Metric); Packaging: TapeAndReel; PartId: 288; Part Status: Active; Price: 0.01; Ratings: AEC-Q200; Series: M; Size / Dimension: 0.024" L x 0.012" W (0.60mm x 0.30mm); Supplier 1: DigiKey; Supplier Part Number 1: 587-5344-1-ND; Thickness (Max): 0.013" (0.33mm); Voltage - Rated: 50V
footprint CAP 0201_0603
pins: 1, 2

## UMK063CG5R6DT-F
designator C?, comment 5.6pF
CAP CER 5.6PF 50V NP0 0201; Part Number: UMK063CG5R6DT-F; Manufacturer: Taiyo Yuden; Temperature Coefficient: C0G, NP0; Tolerance: ±0.5pF; Value: 5.6pF; Applications: General Purpose; Capacitance: 5.6pF; ComponentLink1Description: Datasheet; ComponentLink1URL: https://ds.yuden.co.jp/TYCOMPAS/ut/detail?pn=UMK063CG5R6DT-F  &u=M; ComponentLink2Description: DigiKey Link; ComponentLink2URL: http://digikey.com/product-detail/en/taiyo-yuden/UMK063CG5R6DT-F/587-3189-1-ND/3195017; Device Package: 0201 (0603 Metric); LastUpdated: 9/2/2020 12:58:42 AM; Lifecycle Status: Active; Minimum Order: 1; Mounting Type: Surface Mount, MLCC; Operating Temperature: -55°C ~ 125°C; Package / Case: 0201 (0603 Metric); Packaging: TapeAndReel; PartId: 1140; Part Status: Active; Price: 0.01; Series: M; Size / Dimension: 0.024" L x 0.012" W (0.60mm x 0.30mm); Supplier 1: DigiKey; Supplier Part Number 1: 587-3189-1-ND; Thickness (Max): 0.013" (0.33mm); Voltage - Rated: 50V
footprint CAP 0201_0603
pins: 1, 2

## UMK063CG5R6DTHF
designator C?, comment 5.6pF
CAP CER 5.6PF 50V C0G/NP0 0201; Part Number: UMK063CG5R6DTHF; Manufacturer: Taiyo Yuden; Temperature Coefficient: C0G, NP0; Tolerance: ±0.5pF; Value: 5.6pF; Applications: Automotive, SMPS Filtering; Capacitance: 5.6pF; ComponentLink1Description: Datasheet; ComponentLink1URL: https://ds.yuden.co.jp/TYCOMPAS/ut/detail?pn=UMK063CG5R6DTHF &u=M; ComponentLink2Description: DigiKey Link; ComponentLink2URL: http://digikey.com/product-detail/en/taiyo-yuden/UMK063CG5R6DTHF/587-5345-1-ND/7066207; Device Package: 0201 (0603 Metric); LastUpdated: 9/2/2020 1:00:05 AM; Lifecycle Status: Active; Minimum Order: 1; Mounting Type: Surface Mount, MLCC; Operating Temperature: -55°C ~ 125°C; Package / Case: 0201 (0603 Metric); Packaging: TapeAndReel; PartId: 166; Part Status: Active; Price: 0.01; Ratings: AEC-Q200; Series: M; Size / Dimension: 0.024" L x 0.012" W (0.60mm x 0.30mm); Supplier 1: DigiKey; Supplier Part Number 1: 587-5345-1-ND; Thickness (Max): 0.013" (0.33mm); Voltage - Rated: 50V
footprint CAP 0201_0603
pins: 1, 2

## UMK063CG5R7DTHF
designator C?, comment 5.7pF
CAP CER 5.7PF 50V C0G/NP0 0201; Part Number: UMK063CG5R7DTHF; Manufacturer: Taiyo Yuden; Temperature Coefficient: C0G, NP0; Tolerance: ±0.5pF; Value: 5.7pF; Applications: Automotive, SMPS Filtering; Capacitance: 5.7pF; ComponentLink1Description: Datasheet; ComponentLink1URL: https://ds.yuden.co.jp/TYCOMPAS/ut/detail?pn=UMK063CG5R7DTHF &u=M; ComponentLink2Description: DigiKey Link; ComponentLink2URL: http://digikey.com/product-detail/en/taiyo-yuden/UMK063CG5R7DTHF/587-5346-1-ND/7066208; Device Package: 0201 (0603 Metric); LastUpdated: 9/2/2020 12:59:58 AM; Lifecycle Status: Active; Minimum Order: 1; Mounting Type: Surface Mount, MLCC; Operating Temperature: -55°C ~ 125°C; Package / Case: 0201 (0603 Metric); Packaging: TapeAndReel; PartId: 243; Part Status: Active; Price: 0.01; Ratings: AEC-Q200; Series: M; Size / Dimension: 0.024" L x 0.012" W (0.60mm x 0.30mm); Supplier 1: DigiKey; Supplier Part Number 1: 587-5346-1-ND; Thickness (Max): 0.013" (0.33mm); Voltage - Rated: 50V
footprint CAP 0201_0603
pins: 1, 2

## UMK063CG5R8DTHF
designator C?, comment 5.8pF
CAP CER 5.8PF 50V C0G/NP0 0201; Part Number: UMK063CG5R8DTHF; Manufacturer: Taiyo Yuden; Temperature Coefficient: C0G, NP0; Tolerance: ±0.5pF; Value: 5.8pF; Applications: Automotive, SMPS Filtering; Capacitance: 5.8pF; ComponentLink1Description: Datasheet; ComponentLink1URL: https://ds.yuden.co.jp/TYCOMPAS/ut/detail?pn=UMK063CG5R8DTHF &u=M; ComponentLink2Description: DigiKey Link; ComponentLink2URL: http://digikey.com/product-detail/en/taiyo-yuden/UMK063CG5R8DTHF/587-5347-1-ND/7066209; Device Package: 0201 (0603 Metric); LastUpdated: 9/2/2020 12:59:55 AM; Lifecycle Status: Active; Minimum Order: 1; Mounting Type: Surface Mount, MLCC; Operating Temperature: -55°C ~ 125°C; Package / Case: 0201 (0603 Metric); Packaging: TapeAndReel; PartId: 289; Part Status: Active; Price: 0.01; Ratings: AEC-Q200; Series: M; Size / Dimension: 0.024" L x 0.012" W (0.60mm x 0.30mm); Supplier 1: DigiKey; Supplier Part Number 1: 587-5347-1-ND; Thickness (Max): 0.013" (0.33mm); Voltage - Rated: 50V
footprint CAP 0201_0603
pins: 1, 2

## UMK063CG5R9DTHF
designator C?, comment 5.9pF
CAP CER 5.9PF 50V C0G/NP0 0201; Part Number: UMK063CG5R9DTHF; Manufacturer: Taiyo Yuden; Temperature Coefficient: C0G, NP0; Tolerance: ±0.5pF; Value: 5.9pF; Applications: Automotive, SMPS Filtering; Capacitance: 5.9pF; ComponentLink1Description: Datasheet; ComponentLink1URL: https://ds.yuden.co.jp/TYCOMPAS/ut/detail?pn=UMK063CG5R9DTHF &u=M; ComponentLink2Description: DigiKey Link; ComponentLink2URL: http://digikey.com/product-detail/en/taiyo-yuden/UMK063CG5R9DTHF/587-5348-1-ND/7066210; Device Package: 0201 (0603 Metric); LastUpdated: 9/2/2020 12:59:54 AM; Lifecycle Status: Active; Minimum Order: 1; Mounting Type: Surface Mount, MLCC; Operating Temperature: -55°C ~ 125°C; Package / Case: 0201 (0603 Metric); Packaging: TapeAndReel; PartId: 290; Part Status: Active; Price: 0.01; Ratings: AEC-Q200; Series: M; Size / Dimension: 0.024" L x 0.012" W (0.60mm x 0.30mm); Supplier 1: DigiKey; Supplier Part Number 1: 587-5348-1-ND; Thickness (Max): 0.013" (0.33mm); Voltage - Rated: 50V
footprint CAP 0201_0603
pins: 1, 2

## UMK063CG6R1DTHF
designator C?, comment 6.1pF
CAP CER 6.1PF 50V C0G/NP0 0201; Part Number: UMK063CG6R1DTHF; Manufacturer: Taiyo Yuden; Temperature Coefficient: C0G, NP0; Tolerance: ±0.5pF; Value: 6.1pF; Applications: Automotive, SMPS Filtering; Capacitance: 6.1pF; ComponentLink1Description: Datasheet; ComponentLink1URL: https://ds.yuden.co.jp/TYCOMPAS/ut/detail?pn=UMK063CG6R1DTHF &u=M; ComponentLink2Description: DigiKey Link; ComponentLink2URL: http://digikey.com/product-detail/en/taiyo-yuden/UMK063CG6R1DTHF/587-5349-1-ND/7066211; Device Package: 0201 (0603 Metric); LastUpdated: 9/2/2020 12:59:58 AM; Lifecycle Status: Active; Minimum Order: 1; Mounting Type: Surface Mount, MLCC; Operating Temperature: -55°C ~ 125°C; Package / Case: 0201 (0603 Metric); Packaging: TapeAndReel; PartId: 244; Part Status: Active; Price: 0.01; Ratings: AEC-Q200; Series: M; Size / Dimension: 0.024" L x 0.012" W (0.60mm x 0.30mm); Supplier 1: DigiKey; Supplier Part Number 1: 587-5349-1-ND; Thickness (Max): 0.013" (0.33mm); Voltage - Rated: 50V
footprint CAP 0201_0603
pins: 1, 2

## UMK063CG6R2DTHF
designator C?, comment 6.2pF
CAP CER 6.2PF 50V C0G/NP0 0201; Part Number: UMK063CG6R2DTHF; Manufacturer: Taiyo Yuden; Temperature Coefficient: C0G, NP0; Tolerance: ±0.5pF; Value: 6.2pF; Applications: Automotive, SMPS Filtering; Capacitance: 6.2pF; ComponentLink1Description: Datasheet; ComponentLink1URL: https://ds.yuden.co.jp/TYCOMPAS/ut/detail?pn=UMK063CG6R2DTHF &u=M; ComponentLink2Description: DigiKey Link; ComponentLink2URL: http://digikey.com/product-detail/en/taiyo-yuden/UMK063CG6R2DTHF/587-5350-1-ND/7066212; Device Package: 0201 (0603 Metric); LastUpdated: 9/2/2020 1:00:09 AM; Lifecycle Status: Active; Minimum Order: 1; Mounting Type: Surface Mount, MLCC; Operating Temperature: -55°C ~ 125°C; Package / Case: 0201 (0603 Metric); Packaging: TapeAndReel; PartId: 125; Part Status: Active; Price: 0.01; Ratings: AEC-Q200; Series: M; Size / Dimension: 0.024" L x 0.012" W (0.60mm x 0.30mm); Supplier 1: DigiKey; Supplier Part Number 1: 587-5350-1-ND; Thickness (Max): 0.013" (0.33mm); Voltage - Rated: 50V
footprint CAP 0201_0603
pins: 1, 2

## UMK063CG6R3DTHF
designator C?, comment 6.3pF
CAP CER 6.3PF 50V C0G/NP0 0201; Part Number: UMK063CG6R3DTHF; Manufacturer: Taiyo Yuden; Temperature Coefficient: C0G, NP0; Tolerance: ±0.5pF; Value: 6.3pF; Applications: Automotive, SMPS Filtering; Capacitance: 6.3pF; ComponentLink1Description: Datasheet; ComponentLink1URL: https://ds.yuden.co.jp/TYCOMPAS/ut/detail?pn=UMK063CG6R3DTHF &u=M; ComponentLink2Description: DigiKey Link; ComponentLink2URL: http://digikey.com/product-detail/en/taiyo-yuden/UMK063CG6R3DTHF/587-5351-1-ND/7066213; Device Package: 0201 (0603 Metric); LastUpdated: 9/2/2020 12:59:54 AM; Lifecycle Status: Active; Minimum Order: 1; Mounting Type: Surface Mount, MLCC; Operating Temperature: -55°C ~ 125°C; Package / Case: 0201 (0603 Metric); Packaging: TapeAndReel; PartId: 291; Part Status: Active; Price: 0.01; Ratings: AEC-Q200; Series: M; Size / Dimension: 0.024" L x 0.012" W (0.60mm x 0.30mm); Supplier 1: DigiKey; Supplier Part Number 1: 587-5351-1-ND; Thickness (Max): 0.013" (0.33mm); Voltage - Rated: 50V
footprint CAP 0201_0603
pins: 1, 2

## UMK063CG6R4DTHF
designator C?, comment 6.4pF
CAP CER 6.4PF 50V C0G/NP0 0201; Part Number: UMK063CG6R4DTHF; Manufacturer: Taiyo Yuden; Temperature Coefficient: C0G, NP0; Tolerance: ±0.5pF; Value: 6.4pF; Applications: Automotive, SMPS Filtering; Capacitance: 6.4pF; ComponentLink1Description: Datasheet; ComponentLink1URL: https://ds.yuden.co.jp/TYCOMPAS/ut/detail?pn=UMK063CG6R4DTHF &u=M; ComponentLink2Description: DigiKey Link; ComponentLink2URL: http://digikey.com/product-detail/en/taiyo-yuden/UMK063CG6R4DTHF/587-5352-1-ND/7066214; Device Package: 0201 (0603 Metric); LastUpdated: 9/2/2020 12:59:54 AM; Lifecycle Status: Active; Minimum Order: 1; Mounting Type: Surface Mount, MLCC; Operating Temperature: -55°C ~ 125°C; Package / Case: 0201 (0603 Metric); Packaging: TapeAndReel; PartId: 292; Part Status: Active; Price: 0.01; Ratings: AEC-Q200; Series: M; Size / Dimension: 0.024" L x 0.012" W (0.60mm x 0.30mm); Supplier 1: DigiKey; Supplier Part Number 1: 587-5352-1-ND; Thickness (Max): 0.013" (0.33mm); Voltage - Rated: 50V
footprint CAP 0201_0603
pins: 1, 2

## UMK063CG6R5DTHF
designator C?, comment 6.5pF
CAP CER 6.5PF 50V C0G/NP0 0201; Part Number: UMK063CG6R5DTHF; Manufacturer: Taiyo Yuden; Temperature Coefficient: C0G, NP0; Tolerance: ±0.5pF; Value: 6.5pF; Applications: Automotive, SMPS Filtering; Capacitance: 6.5pF; ComponentLink1Description: Datasheet; ComponentLink1URL: https://ds.yuden.co.jp/TYCOMPAS/ut/detail?pn=UMK063CG6R5DTHF &u=M; ComponentLink2Description: DigiKey Link; ComponentLink2URL: http://digikey.com/product-detail/en/taiyo-yuden/UMK063CG6R5DTHF/587-5353-1-ND/7066215; Device Package: 0201 (0603 Metric); LastUpdated: 9/2/2020 12:59:54 AM; Lifecycle Status: Active; Minimum Order: 1; Mounting Type: Surface Mount, MLCC; Operating Temperature: -55°C ~ 125°C; Package / Case: 0201 (0603 Metric); Packaging: TapeAndReel; PartId: 293; Part Status: Active; Price: 0.01; Ratings: AEC-Q200; Series: M; Size / Dimension: 0.024" L x 0.012" W (0.60mm x 0.30mm); Supplier 1: DigiKey; Supplier Part Number 1: 587-5353-1-ND; Thickness (Max): 0.013" (0.33mm); Voltage - Rated: 50V
footprint CAP 0201_0603
pins: 1, 2

## UMK063CG6R6DTHF
designator C?, comment 6.6pF
CAP CER 6.6PF 50V C0G/NP0 0201; Part Number: UMK063CG6R6DTHF; Manufacturer: Taiyo Yuden; Temperature Coefficient: C0G, NP0; Tolerance: ±0.5pF; Value: 6.6pF; Applications: Automotive, SMPS Filtering; Capacitance: 6.6pF; ComponentLink1Description: Datasheet; ComponentLink1URL: https://ds.yuden.co.jp/TYCOMPAS/ut/detail?pn=UMK063CG6R6DTHF &u=M; ComponentLink2Description: DigiKey Link; ComponentLink2URL: http://digikey.com/product-detail/en/taiyo-yuden/UMK063CG6R6DTHF/587-5354-1-ND/7066216; Device Package: 0201 (0603 Metric); LastUpdated: 9/2/2020 12:59:54 AM; Lifecycle Status: Active; Minimum Order: 1; Mounting Type: Surface Mount, MLCC; Operating Temperature: -55°C ~ 125°C; Package / Case: 0201 (0603 Metric); Packaging: TapeAndReel; PartId: 294; Part Status: Active; Price: 0.01; Ratings: AEC-Q200; Series: M; Size / Dimension: 0.024" L x 0.012" W (0.60mm x 0.30mm); Supplier 1: DigiKey; Supplier Part Number 1: 587-5354-1-ND; Thickness (Max): 0.013" (0.33mm); Voltage - Rated: 50V
footprint CAP 0201_0603
pins: 1, 2

## UMK063CG6R7DTHF
designator C?, comment 6.7pF
CAP CER 6.7PF 50V C0G/NP0 0201; Part Number: UMK063CG6R7DTHF; Manufacturer: Taiyo Yuden; Temperature Coefficient: C0G, NP0; Tolerance: ±0.5pF; Value: 6.7pF; Applications: Automotive, SMPS Filtering; Capacitance: 6.7pF; ComponentLink1Description: Datasheet; ComponentLink1URL: https://ds.yuden.co.jp/TYCOMPAS/ut/detail?pn=UMK063CG6R7DTHF &u=M; ComponentLink2Description: DigiKey Link; ComponentLink2URL: http://digikey.com/product-detail/en/taiyo-yuden/UMK063CG6R7DTHF/587-5355-1-ND/7066217; Device Package: 0201 (0603 Metric); LastUpdated: 9/2/2020 12:59:54 AM; Lifecycle Status: Active; Minimum Order: 1; Mounting Type: Surface Mount, MLCC; Operating Temperature: -55°C ~ 125°C; Package / Case: 0201 (0603 Metric); Packaging: TapeAndReel; PartId: 295; Part Status: Active; Price: 0.01; Ratings: AEC-Q200; Series: M; Size / Dimension: 0.024" L x 0.012" W (0.60mm x 0.30mm); Supplier 1: DigiKey; Supplier Part Number 1: 587-5355-1-ND; Thickness (Max): 0.013" (0.33mm); Voltage - Rated: 50V
footprint CAP 0201_0603
pins: 1, 2

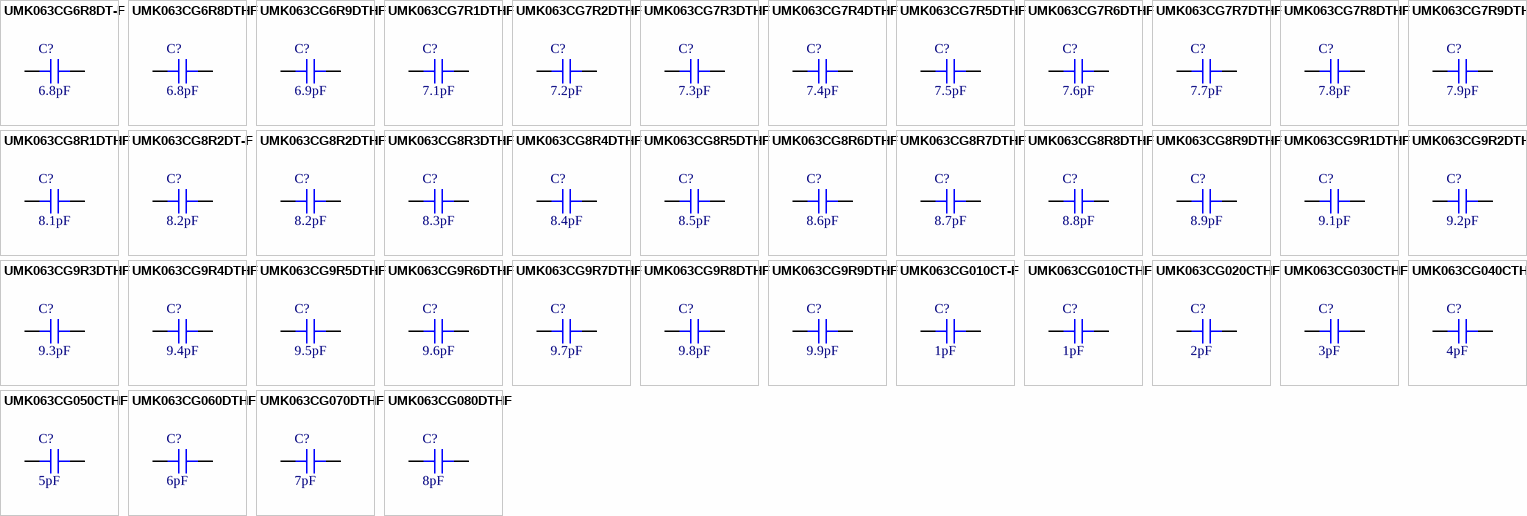
[diagram p41: symbols UMK063CG6R8DT-F to UMK063CG080DTHF]

## UMK063CG6R8DT-F
designator C?, comment 6.8pF
CAP CER 6.8PF 50V NP0 0201; Part Number: UMK063CG6R8DT-F; Manufacturer: Taiyo Yuden; Temperature Coefficient: C0G, NP0; Tolerance: ±0.5pF; Value: 6.8pF; Applications: General Purpose; Capacitance: 6.8pF; ComponentLink1Description: Datasheet; ComponentLink1URL: https://ds.yuden.co.jp/TYCOMPAS/ut/detail?pn=UMK063CG6R8DT-F  &u=M; ComponentLink2Description: DigiKey Link; ComponentLink2URL: http://digikey.com/product-detail/en/taiyo-yuden/UMK063CG6R8DT-F/587-3187-1-ND/3195033; Device Package: 0201 (0603 Metric); LastUpdated: 9/2/2020 1:00:09 AM; Lifecycle Status: Active; Minimum Order: 1; Mounting Type: Surface Mount, MLCC; Operating Temperature: -55°C ~ 125°C; Package / Case: 0201 (0603 Metric); Packaging: TapeAndReel; PartId: 126; Part Status: Active; Price: 0.01; Series: M; Size / Dimension: 0.024" L x 0.012" W (0.60mm x 0.30mm); Supplier 1: DigiKey; Supplier Part Number 1: 587-3187-1-ND; Thickness (Max): 0.013" (0.33mm); Voltage - Rated: 50V
footprint CAP 0201_0603
pins: 1, 2

## UMK063CG6R8DTHF
designator C?, comment 6.8pF
CAP CER 6.8PF 50V C0G/NP0 0201; Part Number: UMK063CG6R8DTHF; Manufacturer: Taiyo Yuden; Temperature Coefficient: C0G, NP0; Tolerance: ±0.5pF; Value: 6.8pF; Applications: Automotive, SMPS Filtering; Capacitance: 6.8pF; ComponentLink1Description: Datasheet; ComponentLink1URL: https://ds.yuden.co.jp/TYCOMPAS/ut/detail?pn=UMK063CG6R8DTHF &u=M; ComponentLink2Description: DigiKey Link; ComponentLink2URL: http://digikey.com/product-detail/en/taiyo-yuden/UMK063CG6R8DTHF/587-5356-1-ND/7066218; Device Package: 0201 (0603 Metric); LastUpdated: 9/2/2020 12:58:38 AM; Lifecycle Status: Active; Minimum Order: 1; Mounting Type: Surface Mount, MLCC; Operating Temperature: -55°C ~ 125°C; Package / Case: 0201 (0603 Metric); Packaging: TapeAndReel; PartId: 1188; Part Status: Active; Price: 0.01; Ratings: AEC-Q200; Series: M; Size / Dimension: 0.024" L x 0.012" W (0.60mm x 0.30mm); Supplier 1: DigiKey; Supplier Part Number 1: 587-5356-1-ND; Thickness (Max): 0.013" (0.33mm); Voltage - Rated: 50V
footprint CAP 0201_0603
pins: 1, 2